# Altium schematic symbol library Cubesat_lib.SchLib: 126 symbols (part 1 of 2)
Pins are listed as number, name and electrical type; pins without a type are passive.

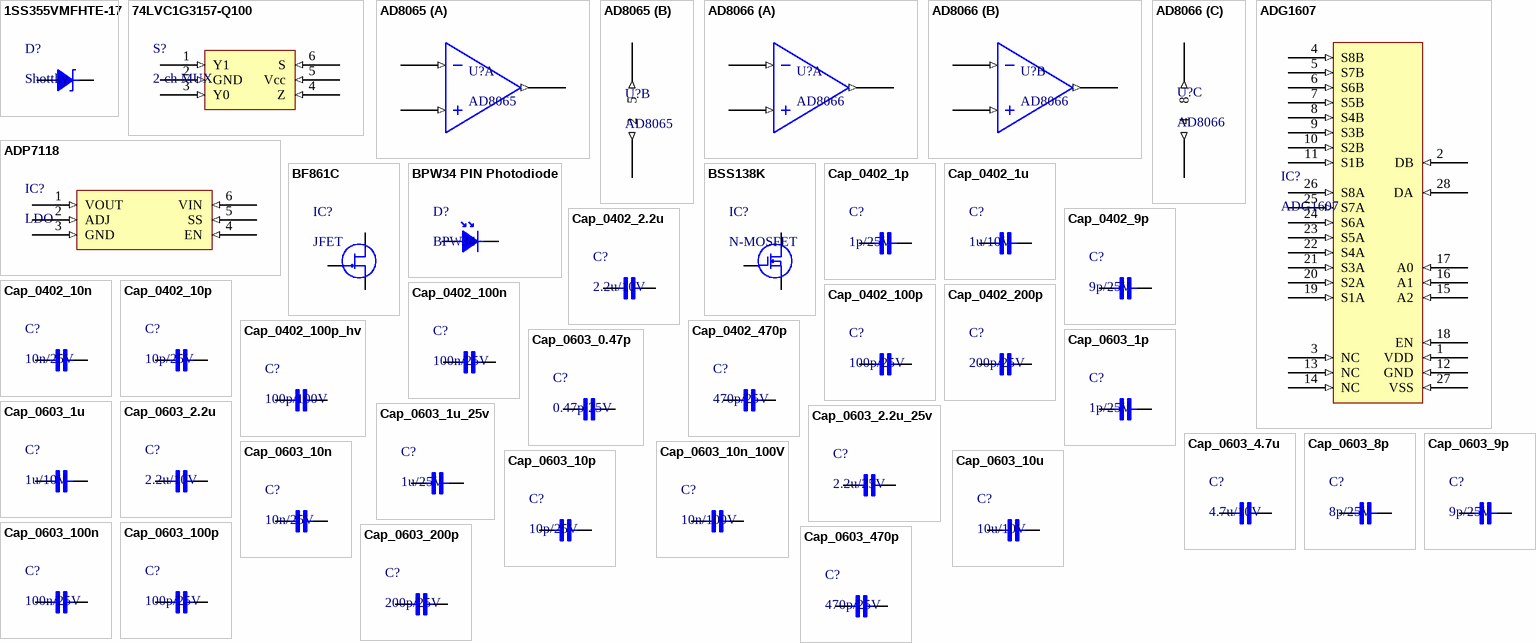
[diagram p0: symbols 1SS355VMFHTE-17 to Cap_0603_470p]

## 1SS355VMFHTE-17
designator D?, comment Shottky
Schottky diode, 90V, 100mA, 1.2V, 4ns; ComponentLink1Description: New link; ComponentLink1URL: http://www.farnell.com/datasheets/2296360.pdf?_ga=2.82751826.559014072.1603739164-289843645.1554760282&_gac=1.61669086.1603127928.Cj0KCQjw8rT8BRCbARIsALWiOvSVwk9r5eslWLPnwyA40yS03dA_HOx56l5PpmQm_xU-UzALJc7kcHAaAvh7EALw_wcB
footprint SOD323 (SODFL, 2-Leads, Body 1.25x2.50mm, IPC Medium Density)
pins: 1, 2

## 74LVC1G3157-Q100
designator S?, comment 2-ch MUX
2-channel analog multiplexer/demultiplexernexperia
footprint TSOP6 (TSOP, 6-Leads, Body 2.90x1.63mm, Pitch 0.95mm, IPC Medium Density)
pins: 1 Y1 (in), 2 GND (in), 3 Y0 (in), 4 Z (in), 5 Vcc (in), 6 S (in)

## AD8065
designator U?
High Performance, 145 MHz / FastFET Op Amps; ComponentLink1Description: New link; ComponentLink1URL: https://pl.mouser.com/datasheet/2/609/AD8065_8066-1502028.pdf
footprint SOT-23-5 (SOT23, 5-Leads, Body 2.90x2.45mm, Pitch 0.95mm, IPC Medium Density)
part A pins: 1 (out), 3 (in), 4 (in)
part B pins: 2 (out), 5 (out)

## AD8066
designator U?
High Performance, 145 MHz / FastFET Op Amps; ComponentLink1Description: New link; ComponentLink1URL: https://pl.mouser.com/ProductDetail/Analog-Devices/AD8066ARZ-R7?qs=%2FtpEQrCGXCwSsy1qvxfKJg%3D%3D
footprint SOIC8 (SOIC, 8-Leads, Body 5.00x4.00mm, Pitch 1.27mm, IPC Medium Density)
part A pins: 1 (out), 2 0 (in), 3 (in)
part B pins: 5 (in), 6 (in), 7 (out)
part C pins: 4 (out), 8 (out)

## ADG1607
designator IC?
8-ch MUX; ComponentLink1Description: New link; ComponentLink1URL: https://pl.mouser.com/datasheet/2/609/ADG1606_1607-1502923.pdf
footprint TSOP28 (TSOP, 28-Leads, Body 9.70x4.40mm, Pitch 0.65mm, IPC Medium Density)
pins: 1 VDD (in), 2 DB (in), 3 NC (in), 4 S8B (in), 5 S7B (in), 6 S6B (in), 7 S5B (in), 8 S4B (in), 9 S3B (in), 10 S2B (in), 11 S1B (in), 12 GND (in), 13 NC (in), 14 NC (in), 15 A2 (in), 16 A1 (in), 17 A0 (in), 18 EN (in), 19 S1A (in), 20 S2A (in), 21 S3A (in), 22 S4A (in), 23 S5A (in), 24 S6A (in), 25 S7A (in), 26 S8A (in), 27 VSS (in), 28 DA (in)

## ADP7118
designator IC?, comment LDO
20 V, 200 mA, Low Noise, / CMOS LDO Linear Regulator
pins: 1 VOUT (in), 2 ADJ (in), 3 GND (in), 4 EN (in), 5 SS (in), 6 VIN (in)

## BF861C
designator IC?, comment JFET
Trans JFET N-CH 25V 3-Pin TO-236AB; Manufacturer: NXP Semiconductors; Manufacturer Part Number: BF861C; Supplier 1: Arrow Electronics; RoHS: Yes; Category: Uncategorized; Number of Pins: 3; ComponentLink1URL: http://docs-usa.electrocomponents.com/techlib:/itc_doclist_US.htm?stockno=6262412&src-supplier=Allied+Electronics; ComponentLink1Description: http://docs-usa.electrocomponents.com/techlib:/itc_doclist_US.htm?stockno=6262412&src-supplier=Allied+Electronics; Supplier Part Number 1: BF861C
footprint SOT23-3
pins: 1 S, 2 D, 3 G

## BPW34 PIN Photodiode
designator D?, comment BPW34
VBPW34S, Pin photodiode, 60V reverse bias max; ComponentLink1Description: New link; ComponentLink1URL: https://pl.mouser.com/datasheet/2/427/vbpw34s-1766836.pdf
footprint BPW34 (Molded Diode, 2-Leads, Body 4.40x3.90mm, IPC Medium Density)
pins: 1, 2

## BSS138K
designator IC?, comment N-MOSFET
n-mosfet 50V, low threshold; Manufacturer: NXP Semiconductors; Manufacturer Part Number: BF861C; Supplier 1: Arrow Electronics; RoHS: Yes; Category: Uncategorized; Number of Pins: 3; ComponentLink1URL: http://docs-usa.electrocomponents.com/techlib:/itc_doclist_US.htm?stockno=6262412&src-supplier=Allied+Electronics; ComponentLink1Description: http://docs-usa.electrocomponents.com/techlib:/itc_doclist_US.htm?stockno=6262412&src-supplier=Allied+Electronics; Supplier Part Number 1: BF861C
footprint SOT23-3
pins: 1 G, 2 S, 3 D

## Cap_0402_1p
designator C?, comment 1p/25V
0402 / 25V / ±5%, Wurth Elektronik MLCC; ComponentLink1Description: New link; ComponentLink1URL: https://www.we-online.com/catalog/en/WCAP-CSGP-25VDC
footprint CAP_0603 (Chip Capacitor, 2-Leads, Body 1.60x0.80mm, IPC Medium Density)
footprint CAP_0603 (Chip Capacitor, 2-Leads, Body 1.60x0.80mm, IPC Medium Density)
footprint CAP_0603 (Chip Capacitor, 2-Leads, Body 1.60x0.80mm, IPC Medium Density)
footprint Cap_0402 (Chip Capacitor, 2-Leads, Body 1.00x0.50mm, IPC Medium Density)
pins: 1, 2

## Cap_0402_1u
designator C?, comment 1u/10V
Ceramic Capacitor 1uF / 0402 / 10V / ±5%, Wurth Elektronik MLCC
footprint CAP_0603 (Chip Capacitor, 2-Leads, Body 1.60x0.80mm, IPC Medium Density)
footprint CAP_0603 (Chip Capacitor, 2-Leads, Body 1.60x0.80mm, IPC Medium Density)
footprint Cap_0402 (Chip Capacitor, 2-Leads, Body 1.00x0.50mm, IPC Medium Density)
pins: 1, 2

## Cap_0402_2.2u
designator C?, comment 2.2u/10V
Ceramic Capacitor 2.2uF / 0402 / 10V / ±5%, Wurth Elektronik MLCC
footprint CAP_0603 (Chip Capacitor, 2-Leads, Body 1.60x0.80mm, IPC Medium Density)
footprint Cap_0402 (Chip Capacitor, 2-Leads, Body 1.00x0.50mm, IPC Medium Density)
pins: 1, 2

## Cap_0402_9p
designator C?, comment 9p/25V
0402 / 25V / ±5%, Wurth Elektronik MLCC; ComponentLink1Description: New link; ComponentLink1URL: https://www.we-online.com/catalog/en/WCAP-CSGP-25VDC
footprint CAP_0603 (Chip Capacitor, 2-Leads, Body 1.60x0.80mm, IPC Medium Density)
footprint CAP_0603 (Chip Capacitor, 2-Leads, Body 1.60x0.80mm, IPC Medium Density)
footprint CAP_0603 (Chip Capacitor, 2-Leads, Body 1.60x0.80mm, IPC Medium Density)
footprint Cap_0402 (Chip Capacitor, 2-Leads, Body 1.00x0.50mm, IPC Medium Density)
pins: 1, 2

## Cap_0402_10n
designator C?, comment 10n/25V
Ceramic Capacitor 10n / 0402 / 25V / ±5%, Wurth Elektronik MLCC; ComponentLink1Description: New link; ComponentLink1URL: https://www.we-online.com/catalog/en/WCAP-CSGP-25VDC
footprint CAP_0603 (Chip Capacitor, 2-Leads, Body 1.60x0.80mm, IPC Medium Density)
footprint CAP_0603 (Chip Capacitor, 2-Leads, Body 1.60x0.80mm, IPC Medium Density)
footprint Cap_0402 (Chip Capacitor, 2-Leads, Body 1.00x0.50mm, IPC Medium Density)
pins: 1, 2

## Cap_0402_10p
designator C?, comment 10p/25V
0402 / 25V / ±5%, Wurth Elektronik MLCC; ComponentLink1Description: New link; ComponentLink1URL: https://www.we-online.com/catalog/en/WCAP-CSGP-25VDC
footprint CAP_0603 (Chip Capacitor, 2-Leads, Body 1.60x0.80mm, IPC Medium Density)
footprint CAP_0603 (Chip Capacitor, 2-Leads, Body 1.60x0.80mm, IPC Medium Density)
footprint CAP_0603 (Chip Capacitor, 2-Leads, Body 1.60x0.80mm, IPC Medium Density)
footprint Cap_0402 (Chip Capacitor, 2-Leads, Body 1.00x0.50mm, IPC Medium Density)
pins: 1, 2

## Cap_0402_100n
designator C?, comment 100n/25V
Ceramic Capacitor 100n / 0402 / 25V / ±5%, Wurth Elektronik MLCC; ComponentLink1Description: New link; ComponentLink1URL: https://www.we-online.com/catalog/en/WCAP-CSGP-25VDC
footprint CAP_0603 (Chip Capacitor, 2-Leads, Body 1.60x0.80mm, IPC Medium Density)
footprint Cap_0402 (Chip Capacitor, 2-Leads, Body 1.00x0.50mm, IPC Medium Density)
pins: 1, 2

## Cap_0402_100p
designator C?, comment 100p/25V
0402 / 25V / ±5%, Wurth Elektronik MLCC; ComponentLink1Description: New link; ComponentLink1URL: https://www.we-online.com/catalog/en/WCAP-CSGP-25VDC
footprint CAP_0603 (Chip Capacitor, 2-Leads, Body 1.60x0.80mm, IPC Medium Density)
footprint CAP_0603 (Chip Capacitor, 2-Leads, Body 1.60x0.80mm, IPC Medium Density)
footprint CAP_0603 (Chip Capacitor, 2-Leads, Body 1.60x0.80mm, IPC Medium Density)
footprint Cap_0402 (Chip Capacitor, 2-Leads, Body 1.00x0.50mm, IPC Medium Density)
pins: 1, 2

## Cap_0402_100p_hv
designator C?, comment 100p/100V
0402 / 100V / ±5%, Wurth Elektronik MLCC; ComponentLink1Description: New link; ComponentLink1URL: https://www.we-online.com/catalog/en/WCAP-CSGP-25VDC
footprint CAP_0603 (Chip Capacitor, 2-Leads, Body 1.60x0.80mm, IPC Medium Density)
footprint CAP_0603 (Chip Capacitor, 2-Leads, Body 1.60x0.80mm, IPC Medium Density)
footprint CAP_0603 (Chip Capacitor, 2-Leads, Body 1.60x0.80mm, IPC Medium Density)
footprint Cap_0402 (Chip Capacitor, 2-Leads, Body 1.00x0.50mm, IPC Medium Density)
pins: 1, 2

## Cap_0402_200p
designator C?, comment 200p/25V
0402 / 25V / ±5%, Wurth Elektronik MLCC; ComponentLink1Description: New link; ComponentLink1URL: https://www.we-online.com/catalog/en/WCAP-CSGP-25VDC
footprint CAP_0603 (Chip Capacitor, 2-Leads, Body 1.60x0.80mm, IPC Medium Density)
footprint CAP_0603 (Chip Capacitor, 2-Leads, Body 1.60x0.80mm, IPC Medium Density)
footprint CAP_0603 (Chip Capacitor, 2-Leads, Body 1.60x0.80mm, IPC Medium Density)
footprint Cap_0402 (Chip Capacitor, 2-Leads, Body 1.00x0.50mm, IPC Medium Density)
pins: 1, 2

## Cap_0402_470p
designator C?, comment 470p/25V
0402 / 25V / ±5%, Wurth Elektronik MLCC; ComponentLink1Description: New link; ComponentLink1URL: https://www.we-online.com/catalog/en/WCAP-CSGP-25VDC
footprint CAP_0603 (Chip Capacitor, 2-Leads, Body 1.60x0.80mm, IPC Medium Density)
footprint CAP_0603 (Chip Capacitor, 2-Leads, Body 1.60x0.80mm, IPC Medium Density)
footprint CAP_0603 (Chip Capacitor, 2-Leads, Body 1.60x0.80mm, IPC Medium Density)
footprint Cap_0402 (Chip Capacitor, 2-Leads, Body 1.00x0.50mm, IPC Medium Density)
pins: 1, 2

## Cap_0603_0.47p
designator C?, comment 0.47p/25V
Ceramic Capacitor 0.47p / 0603 / 25V / ±5%, Wurth Elektronik MLCC; ComponentLink1Description: New link; ComponentLink1URL: https://www.we-online.com/catalog/en/WCAP-CSGP-25VDC
footprint CAP_0603 (Chip Capacitor, 2-Leads, Body 1.60x0.80mm, IPC Medium Density)
footprint CAP_0603 (Chip Capacitor, 2-Leads, Body 1.60x0.80mm, IPC Medium Density)
pins: 1, 2

## Cap_0603_1p
designator C?, comment 1p/25V
Ceramic Capacitor 1p / 0603 / 25V / ±5%, Wurth Elektronik MLCC; ComponentLink1Description: New link; ComponentLink1URL: https://www.we-online.com/catalog/en/WCAP-CSGP-25VDC
footprint CAP_0603 (Chip Capacitor, 2-Leads, Body 1.60x0.80mm, IPC Medium Density)
footprint CAP_0603 (Chip Capacitor, 2-Leads, Body 1.60x0.80mm, IPC Medium Density)
footprint CAP_0603 (Chip Capacitor, 2-Leads, Body 1.60x0.80mm, IPC Medium Density)
pins: 1, 2

## Cap_0603_1u
designator C?, comment 1u/10V
Ceramic Capacitor 1uF / 0603 / 10V / ±5%, Wurth Elektronik MLCC
footprint CAP_0603 (Chip Capacitor, 2-Leads, Body 1.60x0.80mm, IPC Medium Density)
footprint CAP_0603 (Chip Capacitor, 2-Leads, Body 1.60x0.80mm, IPC Medium Density)
pins: 1, 2

## Cap_0603_1u_25v
designator C?, comment 1u/25V
Ceramic Capacitor 1uF / 0603 / 25V / ±5%, Wurth Elektronik MLCC
footprint CAP_0603 (Chip Capacitor, 2-Leads, Body 1.60x0.80mm, IPC Medium Density)
footprint CAP_0603 (Chip Capacitor, 2-Leads, Body 1.60x0.80mm, IPC Medium Density)
pins: 1, 2

## Cap_0603_2.2u
designator C?, comment 2.2u/10V
Ceramic Capacitor 2.2uF / 0603 / 10V / ±5%, Wurth Elektronik MLCC
footprint CAP_0603 (Chip Capacitor, 2-Leads, Body 1.60x0.80mm, IPC Medium Density)
pins: 1, 2

## Cap_0603_2.2u_25v
designator C?, comment 2.2u/25V
Ceramic Capacitor 2.2uF / 0603 / 25V / ±5%, Wurth Elektronik MLCC
footprint CAP_0603 (Chip Capacitor, 2-Leads, Body 1.60x0.80mm, IPC Medium Density)
pins: 1, 2

## Cap_0603_4.7u
designator C?, comment 4.7u/10V
Ceramic Capacitor 4.7u / 0603 / 10V / ±5%, Wurth Elektronik MLCC
footprint CAP_0603 (Chip Capacitor, 2-Leads, Body 1.60x0.80mm, IPC Medium Density)
footprint CAP_0603 (Chip Capacitor, 2-Leads, Body 1.60x0.80mm, IPC Medium Density)
pins: 1, 2

## Cap_0603_8p
designator C?, comment 8p/25V
Ceramic Capacitor 8p / 0603 / 25V / ±5%, Wurth Elektronik MLCC; ComponentLink1Description: New link; ComponentLink1URL: https://www.we-online.com/catalog/en/WCAP-CSGP-25VDC
footprint CAP_0603 (Chip Capacitor, 2-Leads, Body 1.60x0.80mm, IPC Medium Density)
footprint CAP_0603 (Chip Capacitor, 2-Leads, Body 1.60x0.80mm, IPC Medium Density)
footprint CAP_0603 (Chip Capacitor, 2-Leads, Body 1.60x0.80mm, IPC Medium Density)
pins: 1, 2

## Cap_0603_9p
designator C?, comment 9p/25V
Ceramic Capacitor 9p / 0603 / 25V / ±5%, Wurth Elektronik MLCC; ComponentLink1Description: New link; ComponentLink1URL: https://www.we-online.com/catalog/en/WCAP-CSGP-25VDC
footprint CAP_0603 (Chip Capacitor, 2-Leads, Body 1.60x0.80mm, IPC Medium Density)
footprint CAP_0603 (Chip Capacitor, 2-Leads, Body 1.60x0.80mm, IPC Medium Density)
footprint CAP_0603 (Chip Capacitor, 2-Leads, Body 1.60x0.80mm, IPC Medium Density)
pins: 1, 2

## Cap_0603_10n
designator C?, comment 10n/25V
Ceramic Capacitor 10n / 0603 / 25V / ±5%, Wurth Elektronik MLCC; ComponentLink1Description: New link; ComponentLink1URL: https://www.we-online.com/catalog/en/WCAP-CSGP-25VDC
footprint CAP_0603 (Chip Capacitor, 2-Leads, Body 1.60x0.80mm, IPC Medium Density)
footprint CAP_0603 (Chip Capacitor, 2-Leads, Body 1.60x0.80mm, IPC Medium Density)
pins: 1, 2

## Cap_0603_10n_100V
designator C?, comment 10n/100V
Ceramic Capacitor 10n / 0603 / 100V / ±5%, Wurth Elektronik MLCC; ComponentLink1Description: New link; ComponentLink1URL: https://www.we-online.com/catalog/en/WCAP-CSGP-25VDC
footprint CAP_0603 (Chip Capacitor, 2-Leads, Body 1.60x0.80mm, IPC Medium Density)
footprint CAP_0603 (Chip Capacitor, 2-Leads, Body 1.60x0.80mm, IPC Medium Density)
pins: 1, 2

## Cap_0603_10p
designator C?, comment 10p/25V
Ceramic Capacitor 10p / 0603 / 25V / ±5%, Wurth Elektronik MLCC; ComponentLink1Description: New link; ComponentLink1URL: https://www.we-online.com/catalog/en/WCAP-CSGP-25VDC
footprint CAP_0603 (Chip Capacitor, 2-Leads, Body 1.60x0.80mm, IPC Medium Density)
footprint CAP_0603 (Chip Capacitor, 2-Leads, Body 1.60x0.80mm, IPC Medium Density)
footprint CAP_0603 (Chip Capacitor, 2-Leads, Body 1.60x0.80mm, IPC Medium Density)
pins: 1, 2

## Cap_0603_10u
designator C?, comment 10u/10V
Ceramic Capacitor 10uF / 0603 / 10V / ±5%, Wurth Elektronik MLCC
footprint CAP_0603 (Chip Capacitor, 2-Leads, Body 1.60x0.80mm, IPC Medium Density)
footprint CAP_0603 (Chip Capacitor, 2-Leads, Body 1.60x0.80mm, IPC Medium Density)
pins: 1, 2

## Cap_0603_100n
designator C?, comment 100n/25V
Ceramic Capacitor 100n / 0603 / 25V / ±5%, Wurth Elektronik MLCC; ComponentLink1Description: New link; ComponentLink1URL: https://www.we-online.com/catalog/en/WCAP-CSGP-25VDC
footprint CAP_0603 (Chip Capacitor, 2-Leads, Body 1.60x0.80mm, IPC Medium Density)
pins: 1, 2

## Cap_0603_100p
designator C?, comment 100p/25V
Ceramic Capacitor 100p / 0603 / 25V / ±5%, Wurth Elektronik MLCC; ComponentLink1Description: New link; ComponentLink1URL: https://www.we-online.com/catalog/en/WCAP-CSGP-25VDC
footprint CAP_0603 (Chip Capacitor, 2-Leads, Body 1.60x0.80mm, IPC Medium Density)
footprint CAP_0603 (Chip Capacitor, 2-Leads, Body 1.60x0.80mm, IPC Medium Density)
footprint CAP_0603 (Chip Capacitor, 2-Leads, Body 1.60x0.80mm, IPC Medium Density)
pins: 1, 2

## Cap_0603_200p
designator C?, comment 200p/25V
Ceramic Capacitor 200p / 0603 / 25V / ±5%, Wurth Elektronik MLCC; ComponentLink1Description: New link; ComponentLink1URL: https://www.we-online.com/catalog/en/WCAP-CSGP-25VDC
footprint CAP_0603 (Chip Capacitor, 2-Leads, Body 1.60x0.80mm, IPC Medium Density)
footprint CAP_0603 (Chip Capacitor, 2-Leads, Body 1.60x0.80mm, IPC Medium Density)
footprint CAP_0603 (Chip Capacitor, 2-Leads, Body 1.60x0.80mm, IPC Medium Density)
pins: 1, 2

## Cap_0603_470p
designator C?, comment 470p/25V
Ceramic Capacitor 470p / 0603 / 25V / ±5%, Wurth Elektronik MLCC; ComponentLink1Description: New link; ComponentLink1URL: https://www.we-online.com/catalog/en/WCAP-CSGP-25VDC
footprint CAP_0603 (Chip Capacitor, 2-Leads, Body 1.60x0.80mm, IPC Medium Density)
footprint CAP_0603 (Chip Capacitor, 2-Leads, Body 1.60x0.80mm, IPC Medium Density)
footprint CAP_0603 (Chip Capacitor, 2-Leads, Body 1.60x0.80mm, IPC Medium Density)
pins: 1, 2

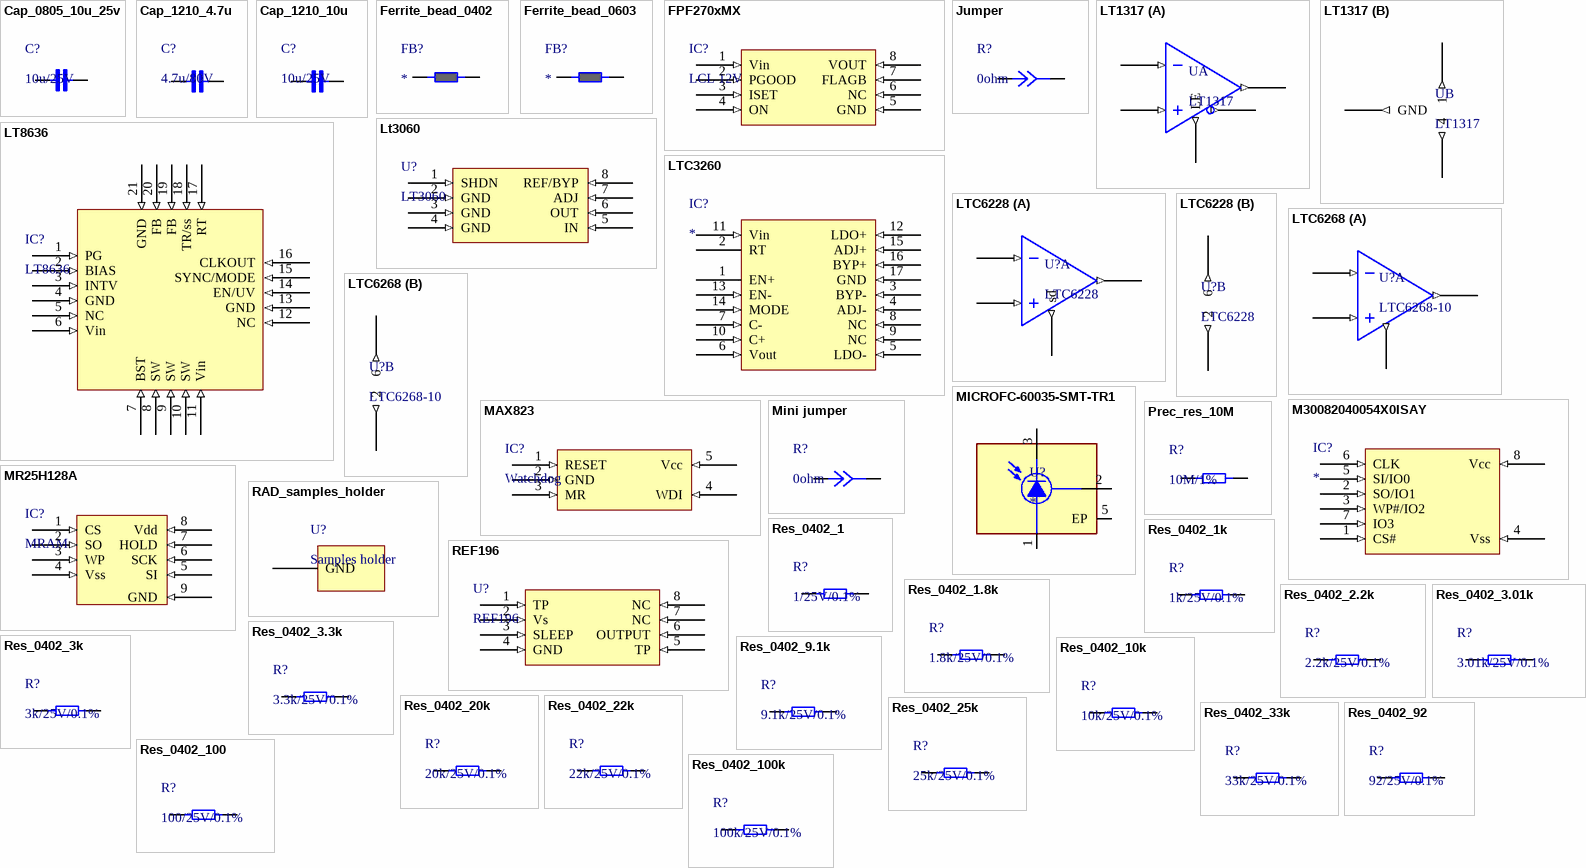
[diagram p1: symbols Cap_0805_10u_25v to Res_0402_100k]

## Cap_0805_10u_25v
designator C?, comment 10u/25V
Ceramic Capacitor 10uF / 0805 / 25V / ±5%, Wurth Elektronik MLCC
footprint CAP_0603 (Chip Capacitor, 2-Leads, Body 1.60x0.80mm, IPC Medium Density)
footprint CAP_0603 (Chip Capacitor, 2-Leads, Body 1.60x0.80mm, IPC Medium Density)
footprint CAP_0805 (Chip Capacitor, 2-Leads, Body 2.00x1.25mm, IPC Medium Density)
pins: 1, 2

## Cap_1210_4.7u
designator C?, comment 4.7u/80V
Multilayer Ceramic Capacitors MLCC - SMD/SMT 1210 4.7uF 80volts *Derate Voltage/Temp; Manufacturer: Murata; Manufacturer Part Number: GRM32ER71K475KE14L; Voltage Rating (DC): 80V; Dielectric: X7R; Tolerance: 10%; Supplier 1: Digi-Key; RoHS: Yes; Category: Ceramic Capacitors; Stock 1: 275397; Pricing 1: 1=1.05000, 10=0.79900, 50=0.66340, 100=0.57130, 500=0.44234 (USD); Mount: Surface Mount; Case/Package: 1210; Weight: 0.00388oz; Dielectric Material: Ceramic; Case Code (Metric): 3225; Case Code (Imperial): 1210; Min Operating Temperature: -55°C; Max Operating Temperature: 125°C; Package Quantity: 1000; Packaging: Tape and Reel; Voltage Rating: 80V; Voltage: 80V; Termination: SMD/SMT; Capacitance: 4.7uF; Length: 3.2mm; Width: 2.5mm; Height: 2.5mm; Thickness: 0.106inch; Depth: 2.5mm; Lead Free: Lead Free; ComponentLink1URL: http://www.mouser.com/ds/2/281/c02e-2905.pdf?src-supplier=Mouser; ComponentLink1Description: http://www.mouser.com/ds/2/281/c02e-2905.pdf?src-supplier=Mouser; ComponentLink2URL: http://search.murata.co.jp/Ceramy/image/img/A01X/G101/ENG/GRM32ER71K475KE14-01.pdf?src-supplier=Digi-Key; ComponentLink2Description: http://search.murata.co.jp/Ceramy/image/img/A01X/G101/ENG/GRM32ER71K475KE14-01.pdf?src-supplier=Digi-Key
footprint CAP_1210 (Chip Capacitor, 2-Leads, Body 3.20x2.50mm, IPC Medium Density)
pins: 1, 2

## Cap_1210_10u
designator C?, comment 10u/25V
Multilayer Ceramic Capacitors MLCC - SMD/SMT 1210 10uF 25volts *Derate Voltage/Temp; Manufacturer: Murata; Manufacturer Part Number: GRM32ER71K475KE14L; Voltage Rating (DC): 80V; Dielectric: X7R; Tolerance: 10%; Capacitance: 4.7uF; Supplier 1: Digi-Key; RoHS: Yes; Category: Ceramic Capacitors; Stock 1: 275397; Pricing 1: 1=1.05000, 10=0.79900, 50=0.66340, 100=0.57130, 500=0.44234 (USD); Mount: Surface Mount; Case/Package: 1210; Weight: 0.00388oz; Dielectric Material: Ceramic; Case Code (Metric): 3225; Case Code (Imperial): 1210; Min Operating Temperature: -55°C; Max Operating Temperature: 125°C; Package Quantity: 1000; Packaging: Tape and Reel; Voltage Rating: 80V; Voltage: 80V; Termination: SMD/SMT; Length: 3.2mm; Width: 2.5mm; Height: 2.5mm; Thickness: 0.106inch; Depth: 2.5mm; Lead Free: Lead Free; ComponentLink1URL: http://www.mouser.com/ds/2/281/c02e-2905.pdf?src-supplier=Mouser; ComponentLink1Description: http://www.mouser.com/ds/2/281/c02e-2905.pdf?src-supplier=Mouser; ComponentLink2URL: http://search.murata.co.jp/Ceramy/image/img/A01X/G101/ENG/GRM32ER71K475KE14-01.pdf?src-supplier=Digi-Key; ComponentLink2Description: http://search.murata.co.jp/Ceramy/image/img/A01X/G101/ENG/GRM32ER71K475KE14-01.pdf?src-supplier=Digi-Key
footprint CAP_1210 (Chip Capacitor, 2-Leads, Body 3.20x2.50mm, IPC Medium Density)
pins: 1, 2

## Ferrite_bead_0402
designator FB?
Ferrite bead, wurth 74269241102
footprint Ferrite_0603 (Chip Inductor, 2-Leads, Body 1.60x0.80mm, IPC Medium Density)
footprint FERRITE_0402 (Chip Inductor, 2-Leads, Body 1.00x0.50mm, IPC Medium Density)
pins: 1, 2

## Ferrite_bead_0603
designator FB?
Ferrite bead
footprint Ferrite_0603 (Chip Inductor, 2-Leads, Body 1.60x0.80mm, IPC Medium Density)
pins: 1, 2

## FPF270xMX
designator IC?, comment LCL 12V
FPF270xMX, 04-2A Adjustable Over-Current Protection Load Switches
footprint SO8
pins: 1 Vin (in), 2 PGOOD (in), 3 ISET (in), 4 ON (in), 5 GND (in), 6 NC (in), 7 FLAGB (in), 8 VOUT (in)

## Jumper
designator R?, comment 0ohm
footprint Jumper 2 (Chip Resistor, 2-Leads, Body 2.00x1.20mm, IPC Medium Density)
footprint Jumper 2 (Chip Resistor, 2-Leads, Body 2.00x1.20mm, IPC Medium Density)
pins: 1, 2

## LT1317
designator U
Single, 7ns, Low Power, / 3V/5V/±5V Rail-to-Rail Comparators; ComponentLink1Description: New link; ComponentLink1URL: https://pl.mouser.com/ProductDetail/Analog-Devices/LT1713CMS8PBF?qs=ytflclh7QUW98nqGG0sqzA%3D%3D
footprint MSOP-8 (TSOP, 8-Leads, Body 3.00x3.00mm, Pitch 0.65mm, IPC Medium Density)
part A pins: 2 (in), 3 (in), 5 LE (out), 7 (out), 8 (out)
part B pins: 1 (out), 4 (out), 6 GND (out)

## Lt3060
designator U?, comment LT3060
45V VIN, Micropower, / Low Noise, 100mA Low / Dropout, Linear Regulator
footprint TS8 (TSOP, 8-Leads, Body 2.90x1.63mm, Pitch 0.65mm, IPC Medium Density)
pins: 1 SHDN (in), 2 GND (in), 3 GND (in), 4 GND (in), 5 IN (in), 6 OUT (in), 7 ADJ (in), 8 REF/BYP (in)

## LT8636
designator IC?
42V, 5A/7A Peak Synchronous Step-Down / Silent Switcher with 2.5µA Quiescent Current
footprint LQFN20 (QFN, 20-Leads, Body 3.00x4.00mm, Pitch 0.50mm, Thermal Pad 1.66x2.65mm, IPC Medium Density)
pins: 1 PG (in), 2 BIAS (in), 3 INTV (in), 4 GND (in), 5 NC (in), 6 Vin (in), 7 BST (in), 8 SW (in), 9 SW (in), 10 SW (in), 11 Vin (in), 12 NC (in), 13 GND (in), 14 EN/UV (in), 15 SYNC/MODE (in), 16 CLKOUT (in), 17 RT (in), 18 TR/ss (in), 19 FB (in), 20 FB (in), 21 GND (in)

## LTC3260
designator IC?
Charge pump, low noise; ComponentLink1Description: New link; ComponentLink1URL: https://pl.mouser.com/datasheet/2/609/3260fa-1271271.pdf
footprint MSOP-16 (TSSOP, 16-Leads, Body 4.04x3.00mm, Pitch 0.50mm, Thermal Pad 2.85x1.65mm, IPC Medium Density)
pins: 1 EN+, 2 RT, 3 BYP- (in), 4 ADJ- (in), 5 LDO- (in), 6 Vout (in), 7 C- (in), 8 NC (in), 9 NC (in), 10 C+ (in), 11 Vin (in), 12 LDO+ (in), 13 EN- (in), 14 MODE (in), 15 ADJ+ (in), 16 BYP+ (in), 17 GND (in)

## LTC6228
designator U?
0.88nV/√Hz 730MHz, 500V/µs, / Low Distortion Rail-to-Rail Output Op / Amps with Shutdown; ComponentLink1Description: New link; ComponentLink1URL: https://pl.mouser.com/datasheet/2/609/LTC6228_6229-1660243.pdf
footprint SOT-23-6
part A pins: 1 (out), 3 (in), 4 (in), 5 sd (out)
part B pins: 2 (out), 6 (out)

## LTC6268
designator U?, comment LTC6268-10
4 ghz, ultra-low noise opamp; ComponentLink1Description: New link; ComponentLink1URL: https://pl.mouser.com/datasheet/2/609/626810f-1279531.pdf
footprint SOT-23-6
part A pins: 1 (out), 3 (in), 4 (in), 5 sd (out)
part B pins: 2 (out), 6 (out)

## M30082040054X0ISAY
designator IC?
QSPI MRAM Memory, 8Mbit, 54Mhz, 3.3V; Manufacturer: Renesas; Manufacturer Part Number: M30082040054X0ISAY; Supplier 1: Digi-Key; RoHS: No; Stock 1: 254; Pricing 1: 1=18.18000, 10=16.93400, 25=16.75280, 40=16.33975, 225=14.34382, 450=13.48704, 1125=12.83184, 4950=12.39840 (USD); Supplier Part Number 1: 800-M30082040054X0IWAY-ND
footprint SOIC8 (SOIC, 8-Leads, Body 5.00x4.00mm, Pitch 1.27mm, IPC Medium Density)
pins: 1 CS# (in), 2 SO/IO1 (in), 3 WP#/IO2 (in), 4 Vss (in), 5 SI/IO0 (in), 6 CLK (in), 7 IO3 (in), 8 Vcc (in)

## MAX823
designator IC?, comment Watchdog
Watchdog, 5-Pin Microprocessor Supervisory Circuits With / Watchdog Timer and Manual Reset; ComponentLink1Description: New link; ComponentLink1URL: https://pl.mouser.com/datasheet/2/256/MAX823-MAX825Z-1116133.pdf
footprint SOT-23-5 (SOT23, 5-Leads, Body 2.90x2.45mm, Pitch 0.95mm, IPC Medium Density)
pins: 1 RESET (in), 2 GND (in), 3 MR (in), 4 WDI (in), 5 Vcc (in)

## MICROFC-60035-SMT-TR1
designator U?
Photodiode 420nm 1ns 4-SMD, No Lead; MF: ON Semiconductor; MP: MICROFC-60035-SMT-TR1; Price: None; SnapEDA_Link: https://www.snapeda.com/parts/MICROFC-60035-SMT-TR1/ON%20Semiconductor/view-part/3228590/?ref=snap; Availability: Unavailable; Value: *; Package: SMD-4 ON Semiconductor
footprint XDCR_MICROFC-60035-SMT-TR1
pins: 1 P-ANODE, 2 F-FAST_OUTPUT, 3 N-CATHODE, 5 EP (power)

## Mini jumper
designator R?, comment 0ohm
footprint Jumper 2 (Chip Resistor, 2-Leads, Body 2.00x1.20mm, IPC Medium Density)
pins: 1, 2

## MR25H128A
designator IC?, comment MRAM
MRAM, 128Kb Serial SPI MRAM, EVERPIN technologies; ComponentLink1Description: New link; ComponentLink1URL: https://pl.mouser.com/datasheet/2/144/MR25H128A_Datasheet-1219034.pdf
footprint DFN8 (SON, 8-Leads, Body 5.00x6.00mm, Pitch 1.27mm, Thermal Pad 2.00x2.00mm, IPC Medium Density)
pins: 1 CS (in), 2 SO (in), 3 WP (in), 4 Vss (in), 5 SI (in), 6 SCK (in), 7 HOLD (in), 8 Vdd (in), 9 GND (in)

## Prec_res_10M
designator R?, comment 10M/1%
Res Thin Film 1206 10M Ohm 0.1% 0.33W(1/3W) ±50ppm/C Sulfur Resistant Pad SMD T/R; Manufacturer: Vishay Dale; Manufacturer Part Number: P1206H1005BGT; Temperature Coefficient: 50ppm/°C; Resistance: 10MR; Supplier 1: Mouser; RoHS: No; Category: Chip SMD Resistors; Stock 1: 96; Pricing 1: 1=7.55000, 10=6.80000, 50=6.19000, 100=5.59000, 200=5.14000, 500=4.68000, 1000=4.08000, 2500=3.93000, 5000=3.77000 (USD); Case/Package: 1206; Contact Plating: Gold; Min Operating Temperature: -55°C; Max Operating Temperature: 155°C; Resistor Type: Thin Film; Tolerance: 0.1%; Packaging: Tape and Reel; Radiation Hardening: No; ComponentLink1URL: https://datasheet.ciiva.com/9051/p-9051054.pdf?src-supplier=Avnet; ComponentLink1Description: https://datasheet.ciiva.com/9051/p-9051054.pdf?src-supplier=Avnet
footprint RES_1206_prec (Chip Resistor, 2-Leads, Body 3.06x1.60mm, IPC Medium Density)
pins: 1, 2

## RAD_samples_holder
designator U?, comment Samples holder
Mechanical aprt
footprint RAD_Samples_Holder
pins: 5 GND

## REF196
designator U?
Precision Micropower, / Low Dropout Voltage References; ComponentLink1Description: New link; ComponentLink1URL: https://www.analog.com/media/en/technical-documentation/data-sheets/REF19xSeries.pdf
footprint SOIC8 (SOIC, 8-Leads, Body 5.00x4.00mm, Pitch 1.27mm, IPC Medium Density)
pins: 1 TP (in), 2 Vs (in), 3 SLEEP (in), 4 GND (in), 5 TP (in), 6 OUTPUT (in), 7 NC (in), 8 NC (in)

## Res_0402_1
designator R?, comment 1/25V/0.1%
Vishay, thin film resistor 1/25V/0.1%
footprint RES_0603 (Chip Resistor, 2-Leads, Body 1.60x0.85mm, IPC Medium Density)
footprint RES_0603 (Chip Resistor, 2-Leads, Body 1.60x0.85mm, IPC Medium Density)
footprint RES_0402 (Chip Resistor, 2-Leads, Body 1.00x0.50mm, IPC Medium Density)
pins: 1, 2

## Res_0402_1.8k
designator R?, comment 1.8k/25V/0.1%
Vishay, thin film resistor 1.8k/25V/0.1%
footprint RES_0603 (Chip Resistor, 2-Leads, Body 1.60x0.85mm, IPC Medium Density)
footprint RES_0603 (Chip Resistor, 2-Leads, Body 1.60x0.85mm, IPC Medium Density)
footprint RES_0603 (Chip Resistor, 2-Leads, Body 1.60x0.85mm, IPC Medium Density)
footprint RES_0402 (Chip Resistor, 2-Leads, Body 1.00x0.50mm, IPC Medium Density)
pins: 1, 2

## Res_0402_1k
designator R?, comment 1k/25V/0.1%
Vishay, thin film resistor 1k/25V/0.1%
footprint RES_0603 (Chip Resistor, 2-Leads, Body 1.60x0.85mm, IPC Medium Density)
footprint RES_0603 (Chip Resistor, 2-Leads, Body 1.60x0.85mm, IPC Medium Density)
footprint RES_0402 (Chip Resistor, 2-Leads, Body 1.00x0.50mm, IPC Medium Density)
pins: 1, 2

## Res_0402_2.2k
designator R?, comment 2.2k/25V/0.1%
Vishay, thin film resistor 2.2k/25V/0.1%
footprint RES_0603 (Chip Resistor, 2-Leads, Body 1.60x0.85mm, IPC Medium Density)
footprint RES_0603 (Chip Resistor, 2-Leads, Body 1.60x0.85mm, IPC Medium Density)
footprint RES_0402 (Chip Resistor, 2-Leads, Body 1.00x0.50mm, IPC Medium Density)
pins: 1, 2

## Res_0402_3.01k
designator R?, comment 3.01k/25V/0.1%
Vishay, thin film resistor 3.01k/25V/0.1%
footprint RES_0603 (Chip Resistor, 2-Leads, Body 1.60x0.85mm, IPC Medium Density)
footprint RES_0603 (Chip Resistor, 2-Leads, Body 1.60x0.85mm, IPC Medium Density)
footprint RES_0603 (Chip Resistor, 2-Leads, Body 1.60x0.85mm, IPC Medium Density)
footprint RES_0402 (Chip Resistor, 2-Leads, Body 1.00x0.50mm, IPC Medium Density)
pins: 1, 2

## Res_0402_3.3k
designator R?, comment 3.3k/25V/0.1%
Vishay, thin film resistor 3.3k/25V/0.1%
footprint RES_0603 (Chip Resistor, 2-Leads, Body 1.60x0.85mm, IPC Medium Density)
footprint RES_0603 (Chip Resistor, 2-Leads, Body 1.60x0.85mm, IPC Medium Density)
footprint RES_0603 (Chip Resistor, 2-Leads, Body 1.60x0.85mm, IPC Medium Density)
footprint RES_0402 (Chip Resistor, 2-Leads, Body 1.00x0.50mm, IPC Medium Density)
pins: 1, 2

## Res_0402_3k
designator R?, comment 3k/25V/0.1%
Vishay, thin film resistor 3k/25V/0.1%
footprint RES_0603 (Chip Resistor, 2-Leads, Body 1.60x0.85mm, IPC Medium Density)
footprint RES_0603 (Chip Resistor, 2-Leads, Body 1.60x0.85mm, IPC Medium Density)
footprint RES_0603 (Chip Resistor, 2-Leads, Body 1.60x0.85mm, IPC Medium Density)
footprint RES_0402 (Chip Resistor, 2-Leads, Body 1.00x0.50mm, IPC Medium Density)
pins: 1, 2

## Res_0402_9.1k
designator R?, comment 9.1k/25V/0.1%
Vishay, thin film resistor 9.1k/25V/0.1%
footprint RES_0603 (Chip Resistor, 2-Leads, Body 1.60x0.85mm, IPC Medium Density)
footprint RES_0603 (Chip Resistor, 2-Leads, Body 1.60x0.85mm, IPC Medium Density)
footprint RES_0603 (Chip Resistor, 2-Leads, Body 1.60x0.85mm, IPC Medium Density)
footprint RES_0402 (Chip Resistor, 2-Leads, Body 1.00x0.50mm, IPC Medium Density)
pins: 1, 2

## Res_0402_10k
designator R?, comment 10k/25V/0.1%
Vishay, thin film resistor 10k/25V/0.1%
footprint RES_0603 (Chip Resistor, 2-Leads, Body 1.60x0.85mm, IPC Medium Density)
footprint RES_0603 (Chip Resistor, 2-Leads, Body 1.60x0.85mm, IPC Medium Density)
footprint RES_0402 (Chip Resistor, 2-Leads, Body 1.00x0.50mm, IPC Medium Density)
pins: 1, 2

## Res_0402_20k
designator R?, comment 20k/25V/0.1%
Vishay, thin film resistor 20k/25V/0.1%
footprint RES_0603 (Chip Resistor, 2-Leads, Body 1.60x0.85mm, IPC Medium Density)
footprint RES_0603 (Chip Resistor, 2-Leads, Body 1.60x0.85mm, IPC Medium Density)
footprint RES_0402 (Chip Resistor, 2-Leads, Body 1.00x0.50mm, IPC Medium Density)
pins: 1, 2

## Res_0402_22k
designator R?, comment 22k/25V/0.1%
Vishay, thin film resistor 20k/25V/0.1%
footprint RES_0603 (Chip Resistor, 2-Leads, Body 1.60x0.85mm, IPC Medium Density)
footprint RES_0603 (Chip Resistor, 2-Leads, Body 1.60x0.85mm, IPC Medium Density)
footprint RES_0402 (Chip Resistor, 2-Leads, Body 1.00x0.50mm, IPC Medium Density)
pins: 1, 2

## Res_0402_25k
designator R?, comment 25k/25V/0.1%
Vishay, thin film resistor 25k/25V/0.1%
footprint RES_0603 (Chip Resistor, 2-Leads, Body 1.60x0.85mm, IPC Medium Density)
footprint RES_0603 (Chip Resistor, 2-Leads, Body 1.60x0.85mm, IPC Medium Density)
footprint RES_0402 (Chip Resistor, 2-Leads, Body 1.00x0.50mm, IPC Medium Density)
pins: 1, 2

## Res_0402_33k
designator R?, comment 33k/25V/0.1%
Vishay, thin film resistor 33k/25V/0.1%
footprint RES_0603 (Chip Resistor, 2-Leads, Body 1.60x0.85mm, IPC Medium Density)
footprint RES_0603 (Chip Resistor, 2-Leads, Body 1.60x0.85mm, IPC Medium Density)
footprint RES_0603 (Chip Resistor, 2-Leads, Body 1.60x0.85mm, IPC Medium Density)
footprint RES_0402 (Chip Resistor, 2-Leads, Body 1.00x0.50mm, IPC Medium Density)
pins: 1, 2

## Res_0402_92
designator R?, comment 92/25V/0.1%
Vishay, thin film resistor 92/25V/0.1%
footprint RES_0603 (Chip Resistor, 2-Leads, Body 1.60x0.85mm, IPC Medium Density)
footprint RES_0603 (Chip Resistor, 2-Leads, Body 1.60x0.85mm, IPC Medium Density)
footprint RES_0402 (Chip Resistor, 2-Leads, Body 1.00x0.50mm, IPC Medium Density)
pins: 1, 2

## Res_0402_100
designator R?, comment 100/25V/0.1%
Vishay, thin film resistor 100/25V/0.1%
footprint RES_0603 (Chip Resistor, 2-Leads, Body 1.60x0.85mm, IPC Medium Density)
footprint RES_0603 (Chip Resistor, 2-Leads, Body 1.60x0.85mm, IPC Medium Density)
footprint RES_0402 (Chip Resistor, 2-Leads, Body 1.00x0.50mm, IPC Medium Density)
pins: 1, 2

## Res_0402_100k
designator R?, comment 100k/25V/0.1%
Vishay, thin film resistor 100k/25V/0.1%
footprint RES_0603 (Chip Resistor, 2-Leads, Body 1.60x0.85mm, IPC Medium Density)
footprint RES_0603 (Chip Resistor, 2-Leads, Body 1.60x0.85mm, IPC Medium Density)
footprint RES_0603 (Chip Resistor, 2-Leads, Body 1.60x0.85mm, IPC Medium Density)
footprint RES_0402 (Chip Resistor, 2-Leads, Body 1.00x0.50mm, IPC Medium Density)
pins: 1, 2

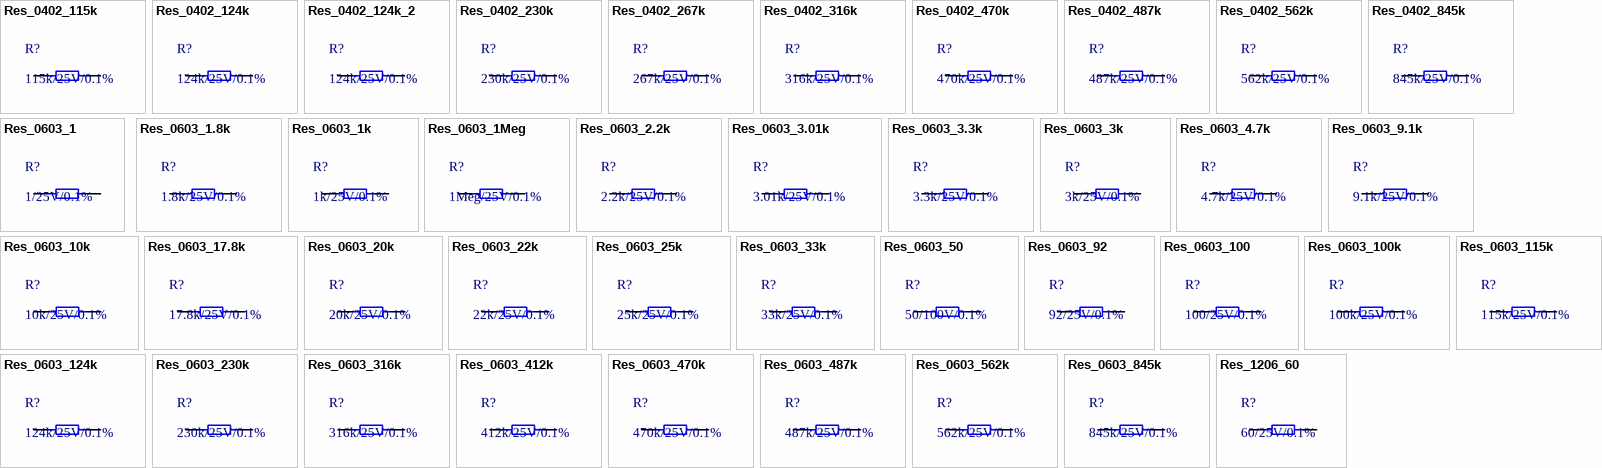
[diagram p2: symbols Res_0402_115k to Res_1206_60]

## Res_0402_115k
designator R?, comment 115k/25V/0.1%
Vishay, thin film resistor 115k/25V/0.1%
footprint RES_0603 (Chip Resistor, 2-Leads, Body 1.60x0.85mm, IPC Medium Density)
footprint RES_0603 (Chip Resistor, 2-Leads, Body 1.60x0.85mm, IPC Medium Density)
footprint RES_0603 (Chip Resistor, 2-Leads, Body 1.60x0.85mm, IPC Medium Density)
footprint RES_0402 (Chip Resistor, 2-Leads, Body 1.00x0.50mm, IPC Medium Density)
pins: 1, 2

## Res_0402_124k
designator R?, comment 124k/25V/0.1%
Vishay, thin film resistor 124k/25V/0.1%
footprint RES_0603 (Chip Resistor, 2-Leads, Body 1.60x0.85mm, IPC Medium Density)
footprint RES_0603 (Chip Resistor, 2-Leads, Body 1.60x0.85mm, IPC Medium Density)
footprint RES_0603 (Chip Resistor, 2-Leads, Body 1.60x0.85mm, IPC Medium Density)
footprint RES_0402 (Chip Resistor, 2-Leads, Body 1.00x0.50mm, IPC Medium Density)
pins: 1, 2

## Res_0402_124k_2
designator R?, comment 124k/25V/0.1%
Vishay, thin film resistor 124k/25V/0.1%
footprint RES_0603 (Chip Resistor, 2-Leads, Body 1.60x0.85mm, IPC Medium Density)
footprint RES_0603 (Chip Resistor, 2-Leads, Body 1.60x0.85mm, IPC Medium Density)
footprint RES_0603 (Chip Resistor, 2-Leads, Body 1.60x0.85mm, IPC Medium Density)
footprint RES_0402 (Chip Resistor, 2-Leads, Body 1.00x0.50mm, IPC Medium Density)
pins: 1, 2

## Res_0402_230k
designator R?, comment 230k/25V/0.1%
Vishay, thin film resistor 230k/25V/0.1%
footprint RES_0603 (Chip Resistor, 2-Leads, Body 1.60x0.85mm, IPC Medium Density)
footprint RES_0603 (Chip Resistor, 2-Leads, Body 1.60x0.85mm, IPC Medium Density)
footprint RES_0603 (Chip Resistor, 2-Leads, Body 1.60x0.85mm, IPC Medium Density)
footprint RES_0402 (Chip Resistor, 2-Leads, Body 1.00x0.50mm, IPC Medium Density)
pins: 1, 2

## Res_0402_267k
designator R?, comment 267k/25V/0.1%
Vishay, thin film resistor 267k/25V/0.1%
footprint RES_0603 (Chip Resistor, 2-Leads, Body 1.60x0.85mm, IPC Medium Density)
footprint RES_0603 (Chip Resistor, 2-Leads, Body 1.60x0.85mm, IPC Medium Density)
footprint RES_0603 (Chip Resistor, 2-Leads, Body 1.60x0.85mm, IPC Medium Density)
footprint RES_0402 (Chip Resistor, 2-Leads, Body 1.00x0.50mm, IPC Medium Density)
pins: 1, 2

## Res_0402_316k
designator R?, comment 316k/25V/0.1%
Vishay, thin film resistor 316k/25V/0.1%
footprint RES_0603 (Chip Resistor, 2-Leads, Body 1.60x0.85mm, IPC Medium Density)
footprint RES_0603 (Chip Resistor, 2-Leads, Body 1.60x0.85mm, IPC Medium Density)
footprint RES_0603 (Chip Resistor, 2-Leads, Body 1.60x0.85mm, IPC Medium Density)
footprint RES_0402 (Chip Resistor, 2-Leads, Body 1.00x0.50mm, IPC Medium Density)
pins: 1, 2

## Res_0402_470k
designator R?, comment 470k/25V/0.1%
Vishay, thin film resistor 470k/25V/0.1%
footprint RES_0603 (Chip Resistor, 2-Leads, Body 1.60x0.85mm, IPC Medium Density)
footprint RES_0603 (Chip Resistor, 2-Leads, Body 1.60x0.85mm, IPC Medium Density)
footprint RES_0603 (Chip Resistor, 2-Leads, Body 1.60x0.85mm, IPC Medium Density)
footprint RES_0402 (Chip Resistor, 2-Leads, Body 1.00x0.50mm, IPC Medium Density)
pins: 1, 2

## Res_0402_487k
designator R?, comment 487k/25V/0.1%
Vishay, thin film resistor 487k/25V/0.1%
footprint RES_0603 (Chip Resistor, 2-Leads, Body 1.60x0.85mm, IPC Medium Density)
footprint RES_0603 (Chip Resistor, 2-Leads, Body 1.60x0.85mm, IPC Medium Density)
footprint RES_0603 (Chip Resistor, 2-Leads, Body 1.60x0.85mm, IPC Medium Density)
footprint RES_0402 (Chip Resistor, 2-Leads, Body 1.00x0.50mm, IPC Medium Density)
pins: 1, 2

## Res_0402_562k
designator R?, comment 562k/25V/0.1%
Vishay, thin film resistor 562k/25V/0.1%
footprint RES_0603 (Chip Resistor, 2-Leads, Body 1.60x0.85mm, IPC Medium Density)
footprint RES_0603 (Chip Resistor, 2-Leads, Body 1.60x0.85mm, IPC Medium Density)
footprint RES_0603 (Chip Resistor, 2-Leads, Body 1.60x0.85mm, IPC Medium Density)
footprint RES_0402 (Chip Resistor, 2-Leads, Body 1.00x0.50mm, IPC Medium Density)
pins: 1, 2

## Res_0402_845k
designator R?, comment 845k/25V/0.1%
Vishay, thin film resistor 845k/25V/0.1%
footprint RES_0603 (Chip Resistor, 2-Leads, Body 1.60x0.85mm, IPC Medium Density)
footprint RES_0603 (Chip Resistor, 2-Leads, Body 1.60x0.85mm, IPC Medium Density)
footprint RES_0603 (Chip Resistor, 2-Leads, Body 1.60x0.85mm, IPC Medium Density)
footprint RES_0402 (Chip Resistor, 2-Leads, Body 1.00x0.50mm, IPC Medium Density)
pins: 1, 2

## Res_0603_1
designator R?, comment 1/25V/0.1%
Vishay, thin film resistor 1/25V/0.1%
footprint RES_0603 (Chip Resistor, 2-Leads, Body 1.60x0.85mm, IPC Medium Density)
footprint RES_0603 (Chip Resistor, 2-Leads, Body 1.60x0.85mm, IPC Medium Density)
footprint CAP_0603 (Chip Capacitor, 2-Leads, Body 1.60x0.80mm, IPC Medium Density)
pins: 2, 2

## Res_0603_1.8k
designator R?, comment 1.8k/25V/0.1%
Vishay, thin film resistor 1.8k/25V/0.1%
footprint RES_0603 (Chip Resistor, 2-Leads, Body 1.60x0.85mm, IPC Medium Density)
footprint RES_0603 (Chip Resistor, 2-Leads, Body 1.60x0.85mm, IPC Medium Density)
footprint RES_0603 (Chip Resistor, 2-Leads, Body 1.60x0.85mm, IPC Medium Density)
footprint RES_0603 (Chip Resistor, 2-Leads, Body 1.60x0.85mm, IPC Medium Density)
footprint RES_0603 (Chip Resistor, 2-Leads, Body 1.60x0.85mm, IPC Medium Density)
pins: 2, 2

## Res_0603_1k
designator R?, comment 1k/25V/0.1%
Vishay, thin film resistor 1k/25V/0.1%
footprint RES_0603 (Chip Resistor, 2-Leads, Body 1.60x0.85mm, IPC Medium Density)
footprint RES_0603 (Chip Resistor, 2-Leads, Body 1.60x0.85mm, IPC Medium Density)
pins: 1, 2

## Res_0603_1Meg
designator R?, comment 1Meg/25V/0.1%
Vishay, thin film resistor 1Meg/25V/0.1%
footprint RES_0603 (Chip Resistor, 2-Leads, Body 1.60x0.85mm, IPC Medium Density)
footprint RES_0603 (Chip Resistor, 2-Leads, Body 1.60x0.85mm, IPC Medium Density)
pins: 1, 2

## Res_0603_2.2k
designator R?, comment 2.2k/25V/0.1%
Vishay, thin film resistor 2.2k/25V/0.1%
footprint RES_0603 (Chip Resistor, 2-Leads, Body 1.60x0.85mm, IPC Medium Density)
footprint RES_0603 (Chip Resistor, 2-Leads, Body 1.60x0.85mm, IPC Medium Density)
footprint RES_0603 (Chip Resistor, 2-Leads, Body 1.60x0.85mm, IPC Medium Density)
pins: 2, 2

## Res_0603_3.01k
designator R?, comment 3.01k/25V/0.1%
Vishay, thin film resistor 3.01k/25V/0.1%
footprint RES_0603 (Chip Resistor, 2-Leads, Body 1.60x0.85mm, IPC Medium Density)
footprint RES_0603 (Chip Resistor, 2-Leads, Body 1.60x0.85mm, IPC Medium Density)
footprint RES_0603 (Chip Resistor, 2-Leads, Body 1.60x0.85mm, IPC Medium Density)
footprint RES_0603 (Chip Resistor, 2-Leads, Body 1.60x0.85mm, IPC Medium Density)
footprint RES_0603 (Chip Resistor, 2-Leads, Body 1.60x0.85mm, IPC Medium Density)
pins: 2, 2

## Res_0603_3.3k
designator R?, comment 3.3k/25V/0.1%
Vishay, thin film resistor 3.3k/25V/0.1%
footprint RES_0603 (Chip Resistor, 2-Leads, Body 1.60x0.85mm, IPC Medium Density)
footprint RES_0603 (Chip Resistor, 2-Leads, Body 1.60x0.85mm, IPC Medium Density)
footprint RES_0603 (Chip Resistor, 2-Leads, Body 1.60x0.85mm, IPC Medium Density)
pins: 2, 2

## Res_0603_3k
designator R?, comment 3k/25V/0.1%
Vishay, thin film resistor 3k/25V/0.1%
footprint RES_0603 (Chip Resistor, 2-Leads, Body 1.60x0.85mm, IPC Medium Density)
footprint RES_0603 (Chip Resistor, 2-Leads, Body 1.60x0.85mm, IPC Medium Density)
footprint RES_0603 (Chip Resistor, 2-Leads, Body 1.60x0.85mm, IPC Medium Density)
footprint RES_0603 (Chip Resistor, 2-Leads, Body 1.60x0.85mm, IPC Medium Density)
footprint RES_0603 (Chip Resistor, 2-Leads, Body 1.60x0.85mm, IPC Medium Density)
pins: 2, 2

## Res_0603_4.7k
designator R?, comment 4.7k/25V/0.1%
Vishay, thin film resistor 4.7k/25V/0.1%
footprint RES_0603 (Chip Resistor, 2-Leads, Body 1.60x0.85mm, IPC Medium Density)
footprint RES_0603 (Chip Resistor, 2-Leads, Body 1.60x0.85mm, IPC Medium Density)
footprint RES_0603 (Chip Resistor, 2-Leads, Body 1.60x0.85mm, IPC Medium Density)
pins: 1, 2

## Res_0603_9.1k
designator R?, comment 9.1k/25V/0.1%
Vishay, thin film resistor 9.1k/25V/0.1%
footprint RES_0603 (Chip Resistor, 2-Leads, Body 1.60x0.85mm, IPC Medium Density)
footprint RES_0603 (Chip Resistor, 2-Leads, Body 1.60x0.85mm, IPC Medium Density)
footprint RES_0603 (Chip Resistor, 2-Leads, Body 1.60x0.85mm, IPC Medium Density)
footprint RES_0603 (Chip Resistor, 2-Leads, Body 1.60x0.85mm, IPC Medium Density)
pins: 2, 2

## Res_0603_10k
designator R?, comment 10k/25V/0.1%
Vishay, thin film resistor 10k/25V/0.1%
footprint RES_0603 (Chip Resistor, 2-Leads, Body 1.60x0.85mm, IPC Medium Density)
footprint RES_0603 (Chip Resistor, 2-Leads, Body 1.60x0.85mm, IPC Medium Density)
footprint RES_0603 (Chip Resistor, 2-Leads, Body 1.60x0.85mm, IPC Medium Density)
pins: 2, 2

## Res_0603_17.8k
designator R?, comment 17.8k/25V/0.1%
Vishay, thin film resistor 17.8k/25V/0.1%
footprint RES_0603 (Chip Resistor, 2-Leads, Body 1.60x0.85mm, IPC Medium Density)
footprint RES_0603 (Chip Resistor, 2-Leads, Body 1.60x0.85mm, IPC Medium Density)
pins: 2, 2

## Res_0603_20k
designator R?, comment 20k/25V/0.1%
Vishay, thin film resistor 20k/25V/0.1%
footprint RES_0603 (Chip Resistor, 2-Leads, Body 1.60x0.85mm, IPC Medium Density)
footprint RES_0603 (Chip Resistor, 2-Leads, Body 1.60x0.85mm, IPC Medium Density)
footprint RES_0603 (Chip Resistor, 2-Leads, Body 1.60x0.85mm, IPC Medium Density)
pins: 2, 2

## Res_0603_22k
designator R?, comment 22k/25V/0.1%
Vishay, thin film resistor 22k/25V/0.1%
footprint RES_0603 (Chip Resistor, 2-Leads, Body 1.60x0.85mm, IPC Medium Density)
footprint RES_0603 (Chip Resistor, 2-Leads, Body 1.60x0.85mm, IPC Medium Density)
footprint RES_0603 (Chip Resistor, 2-Leads, Body 1.60x0.85mm, IPC Medium Density)
pins: 2, 2

## Res_0603_25k
designator R?, comment 25k/25V/0.1%
Vishay, thin film resistor 25k/25V/0.1%
footprint RES_0603 (Chip Resistor, 2-Leads, Body 1.60x0.85mm, IPC Medium Density)
footprint RES_0603 (Chip Resistor, 2-Leads, Body 1.60x0.85mm, IPC Medium Density)
footprint RES_0603 (Chip Resistor, 2-Leads, Body 1.60x0.85mm, IPC Medium Density)
footprint RES_0603 (Chip Resistor, 2-Leads, Body 1.60x0.85mm, IPC Medium Density)
footprint RES_0603 (Chip Resistor, 2-Leads, Body 1.60x0.85mm, IPC Medium Density)
footprint RES_0603 (Chip Resistor, 2-Leads, Body 1.60x0.85mm, IPC Medium Density)
pins: 2, 2

## Res_0603_33k
designator R?, comment 33k/25V/0.1%
Vishay, thin film resistor 33k/25V/0.1%
footprint RES_0603 (Chip Resistor, 2-Leads, Body 1.60x0.85mm, IPC Medium Density)
footprint RES_0603 (Chip Resistor, 2-Leads, Body 1.60x0.85mm, IPC Medium Density)
pins: 2, 2

## Res_0603_50
designator R?, comment 50/100V/0.1%
Vishay, thin film resistor 50/100V/0.1%
footprint RES_0603 (Chip Resistor, 2-Leads, Body 1.60x0.85mm, IPC Medium Density)
footprint RES_0603 (Chip Resistor, 2-Leads, Body 1.60x0.85mm, IPC Medium Density)
footprint RES_0603 (Chip Resistor, 2-Leads, Body 1.60x0.85mm, IPC Medium Density)
footprint RES_0603 (Chip Resistor, 2-Leads, Body 1.60x0.85mm, IPC Medium Density)
footprint RES_0603 (Chip Resistor, 2-Leads, Body 1.60x0.85mm, IPC Medium Density)
pins: 1, 2

## Res_0603_92
designator R?, comment 92/25V/0.1%
Vishay, thin film resistor 92/25V/0.1%
footprint RES_0603 (Chip Resistor, 2-Leads, Body 1.60x0.85mm, IPC Medium Density)
footprint RES_0603 (Chip Resistor, 2-Leads, Body 1.60x0.85mm, IPC Medium Density)
footprint RES_0603 (Chip Resistor, 2-Leads, Body 1.60x0.85mm, IPC Medium Density)
footprint RES_0603 (Chip Resistor, 2-Leads, Body 1.60x0.85mm, IPC Medium Density)
pins: 1, 2

## Res_0603_100
designator R?, comment 100/25V/0.1%
Vishay, thin film resistor 100/25V/0.1%
footprint RES_0603 (Chip Resistor, 2-Leads, Body 1.60x0.85mm, IPC Medium Density)
footprint RES_0603 (Chip Resistor, 2-Leads, Body 1.60x0.85mm, IPC Medium Density)
footprint RES_0603 (Chip Resistor, 2-Leads, Body 1.60x0.85mm, IPC Medium Density)
pins: 1, 2

## Res_0603_100k
designator R?, comment 100k/25V/0.1%
Vishay, thin film resistor 100k/25V/0.1%
footprint RES_0603 (Chip Resistor, 2-Leads, Body 1.60x0.85mm, IPC Medium Density)
footprint RES_0603 (Chip Resistor, 2-Leads, Body 1.60x0.85mm, IPC Medium Density)
footprint RES_0603 (Chip Resistor, 2-Leads, Body 1.60x0.85mm, IPC Medium Density)
pins: 1, 2

## Res_0603_115k
designator R?, comment 115k/25V/0.1%
Vishay, thin film resistor 115k/25V/0.1%
footprint RES_0603 (Chip Resistor, 2-Leads, Body 1.60x0.85mm, IPC Medium Density)
footprint RES_0603 (Chip Resistor, 2-Leads, Body 1.60x0.85mm, IPC Medium Density)
pins: 2, 2

## Res_0603_124k
designator R?, comment 124k/25V/0.1%
Vishay, thin film resistor 124k/25V/0.1%
footprint RES_0603 (Chip Resistor, 2-Leads, Body 1.60x0.85mm, IPC Medium Density)
footprint RES_0603 (Chip Resistor, 2-Leads, Body 1.60x0.85mm, IPC Medium Density)
pins: 2, 2

## Res_0603_230k
designator R?, comment 230k/25V/0.1%
Vishay, thin film resistor 230k/25V/0.1%
footprint RES_0603 (Chip Resistor, 2-Leads, Body 1.60x0.85mm, IPC Medium Density)
footprint RES_0603 (Chip Resistor, 2-Leads, Body 1.60x0.85mm, IPC Medium Density)
footprint RES_0603 (Chip Resistor, 2-Leads, Body 1.60x0.85mm, IPC Medium Density)
pins: 2, 2

## Res_0603_316k
designator R?, comment 316k/25V/0.1%
Vishay, thin film resistor 316k/25V/0.1%
footprint RES_0603 (Chip Resistor, 2-Leads, Body 1.60x0.85mm, IPC Medium Density)
footprint RES_0603 (Chip Resistor, 2-Leads, Body 1.60x0.85mm, IPC Medium Density)
footprint RES_0603 (Chip Resistor, 2-Leads, Body 1.60x0.85mm, IPC Medium Density)
pins: 2, 2

## Res_0603_412k
designator R?, comment 412k/25V/0.1%
Vishay, thin film resistor 412k/25V/0.1%
footprint RES_0603 (Chip Resistor, 2-Leads, Body 1.60x0.85mm, IPC Medium Density)
footprint RES_0603 (Chip Resistor, 2-Leads, Body 1.60x0.85mm, IPC Medium Density)
pins: 2, 2

## Res_0603_470k
designator R?, comment 470k/25V/0.1%
Vishay, thin film resistor 470k/25V/0.1%
footprint RES_0603 (Chip Resistor, 2-Leads, Body 1.60x0.85mm, IPC Medium Density)
footprint RES_0603 (Chip Resistor, 2-Leads, Body 1.60x0.85mm, IPC Medium Density)
footprint RES_0603 (Chip Resistor, 2-Leads, Body 1.60x0.85mm, IPC Medium Density)
pins: 2, 2

## Res_0603_487k
designator R?, comment 487k/25V/0.1%
Vishay, thin film resistor 487k/25V/0.1%
footprint RES_0603 (Chip Resistor, 2-Leads, Body 1.60x0.85mm, IPC Medium Density)
footprint RES_0603 (Chip Resistor, 2-Leads, Body 1.60x0.85mm, IPC Medium Density)
footprint RES_0603 (Chip Resistor, 2-Leads, Body 1.60x0.85mm, IPC Medium Density)
pins: 2, 2

## Res_0603_562k
designator R?, comment 562k/25V/0.1%
Vishay, thin film resistor 562k/25V/0.1%
footprint RES_0603 (Chip Resistor, 2-Leads, Body 1.60x0.85mm, IPC Medium Density)
footprint RES_0603 (Chip Resistor, 2-Leads, Body 1.60x0.85mm, IPC Medium Density)
pins: 2, 2

## Res_0603_845k
designator R?, comment 845k/25V/0.1%
Vishay, thin film resistor 845k/25V/0.1%
footprint RES_0603 (Chip Resistor, 2-Leads, Body 1.60x0.85mm, IPC Medium Density)
footprint RES_0603 (Chip Resistor, 2-Leads, Body 1.60x0.85mm, IPC Medium Density)
pins: 2, 2

## Res_1206_60
designator R?, comment 60/25V/0.1%
Vishay, thin film resistor 60/25V/0.1%
footprint RES_0603 (Chip Resistor, 2-Leads, Body 1.60x0.85mm, IPC Medium Density)
footprint RES_0603 (Chip Resistor, 2-Leads, Body 1.60x0.85mm, IPC Medium Density)
footprint CAP_0603 (Chip Capacitor, 2-Leads, Body 1.60x0.80mm, IPC Medium Density)
footprint RES_1206 (Chip Resistor, 2-Leads, Body 3.20x1.60mm, IPC Medium Density)
pins: 1, 2

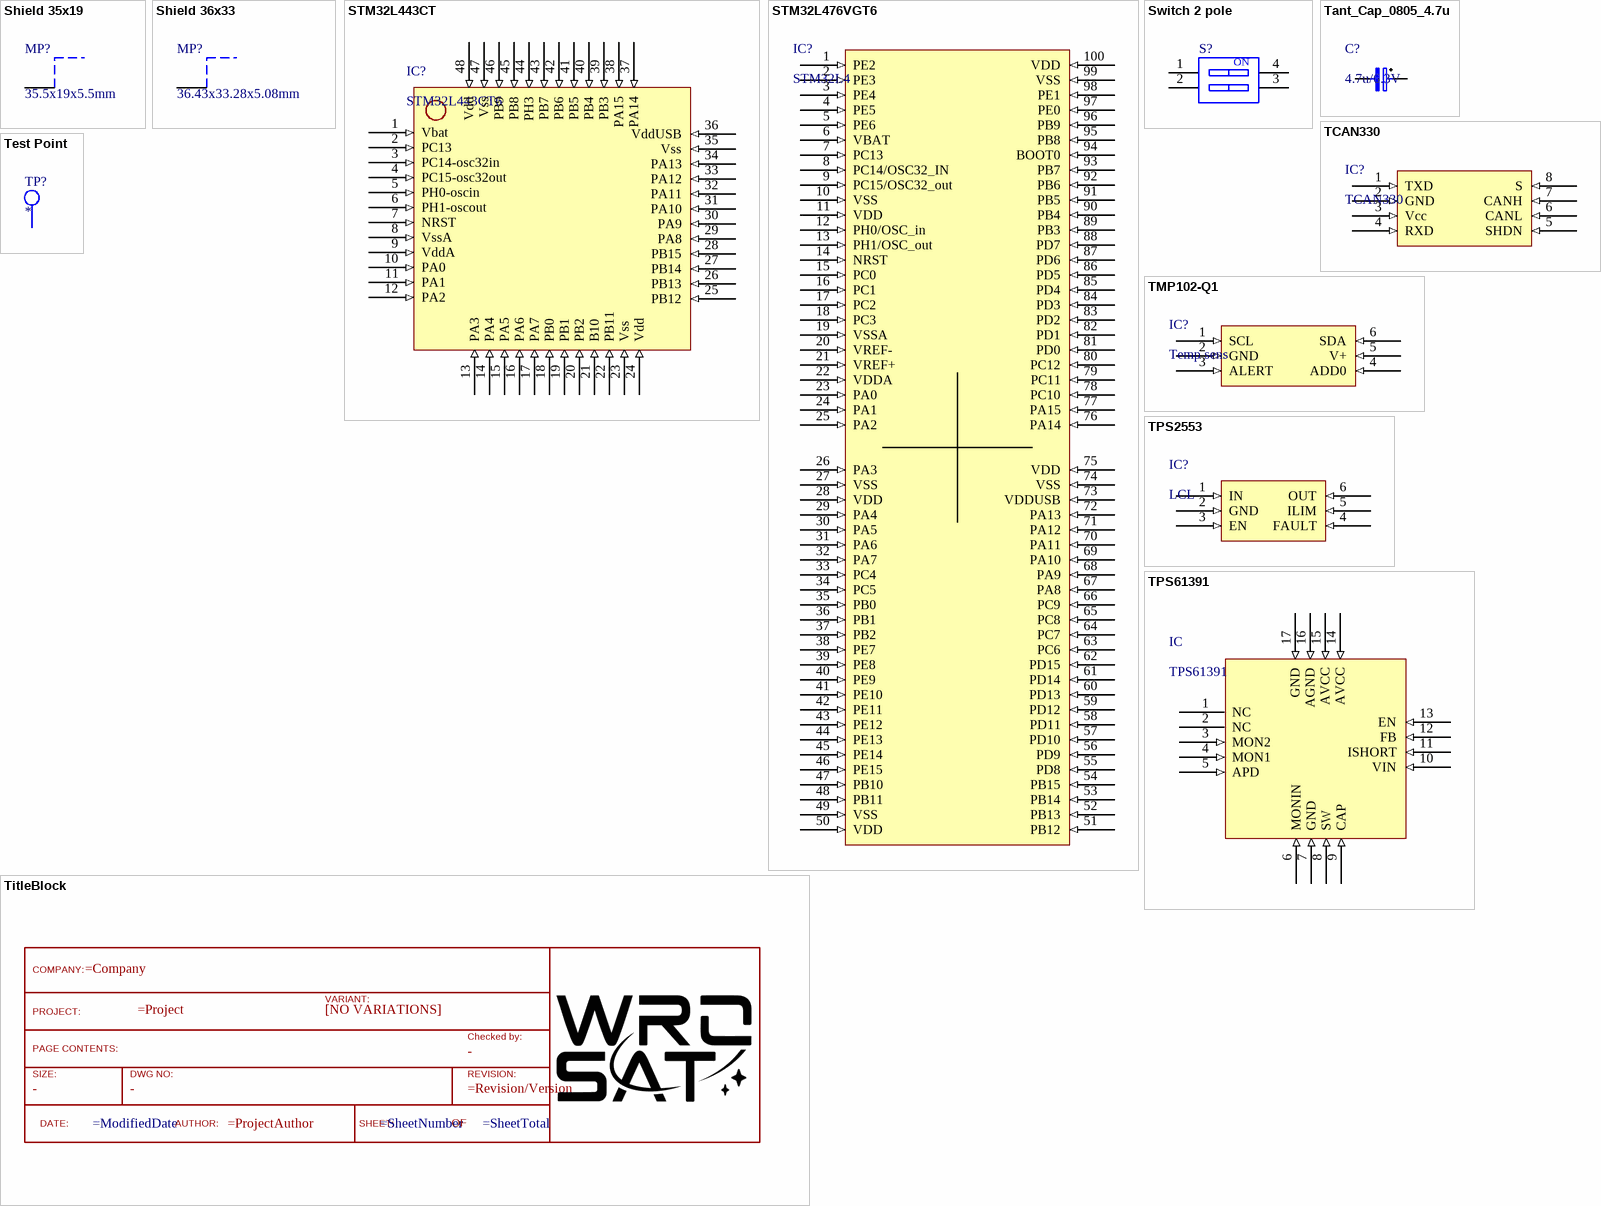
[diagram p3: symbols Shield 35x19 to TPS61391]

## Shield 35x19
designator MP?, comment 35.5x19x5.5mm
WE-SHC Shielding Cabinet, SMT Frame Seamless, Tin Plated, Tray, 35.5x19x5.5mm; Manufacturer Part Number: 3670355; Manufacturer: Wurth Elektronik; Base Material: Steel; Type: SMT Frame Seamless; Width: 19mm; Published Date: November 2020; Plating: Tin Plated; Packaging: Tray; Operating Temperature: -40 to +125degC; Mounting Technology: SMT; Length: 35.5mm; Height: 5.5mm; ComponentLink2URL: https://www.we-online.com/catalog/datasheet/3670355.pdf; ComponentLink2Description: Datasheet; ComponentLink1URL: http://www.we-online.de; ComponentLink1Description: Manufacturer
footprint 3670355
footprint Shiled_35x19 (Shielding Cabinet, SMT Frame Seamless, 35.5x19x5.5mm)
pins: 1

## Shield 36x33
designator MP?, comment 36.43x33.28x5.08mm
WE-SHC Shielding Cabinet, SMT Frame, Tin Plated, Tape and Reel, 36.43x33.28x5.08mm; Manufacturer: Wurth Elektronik; Manufacturer Part Number: 3610536336S; Base Material: Steel; ComponentLink1Description: Manufacturer; ComponentLink1URL: http://www.we-online.de; ComponentLink2Description: Datasheet; ComponentLink2URL: https://www.we-online.com/catalog/datasheet/3610536336S.pdf; Operating Temperature: -40 to +125degC; Packaging: Tape and Reel; Plating: Tin; Length: 36.43mm; Type: SMD Frame; Height: 5.08mm; Mounting Technology: SMT; Published Date: April 2020; Width: 33.28mm
footprint 3610536336S
footprint Shield 36x33 (Shielding Cabinet, SMD Frame, 36.83x33.68mm)
pins: 1

## STM32L443CT
designator IC?, comment STM32L443CT6
Microcontroller STM32; ComponentLink1Description: New link; ComponentLink1URL: https://il.farnell.com/stmicroelectronics/stm32l443cct6/mcu-32bit-80mhz-lqfp-48/dp/3129670
footprint LQFP48 (TSQFP, 48-Leads, Body 7.00x7.00mm, Pitch 0.50mm, IPC Medium Density)
pins: 1 Vbat (in), 2 PC13 (in), 3 PC14-osc32in (in), 4 PC15-osc32out (in), 5 PH0-oscin (in), 6 PH1-oscout (in), 7 NRST (in), 8 VssA (in), 9 VddA (in), 10 PA0 (in), 11 PA1 (in), 12 PA2 (in), 13 PA3 (in), 14 PA4 (in), 15 PA5 (in), 16 PA6 (in), 17 PA7 (in), 18 PB0 (in), 19 PB1 (in), 20 PB2 (in), 21 B10 (in), 22 PB11 (in), 23 Vss (in), 24 Vdd (in), 25 PB12 (in), 26 PB13 (in), 27 PB14 (in), 28 PB15 (in), 29 PA8 (in), 30 PA9 (in), 31 PA10 (in), 32 PA11 (in), 33 PA12 (in), 34 PA13 (in), 35 Vss (in), 36 VddUSB (in), 37 PA14 (in), 38 PA15 (in), 39 PB3 (in), 40 PB4 (in), 41 PB5 (in), 42 PB6 (in), 43 PB7 (in), 44 PH3 (in), 45 PB8 (in), 46 PB9 (in), 47 Vss (in), 48 Vdd (in)